# Altium footprint library BAT.PcbLib: 1 footprints
Each footprint in its own frame and in the unit in brackets; x right, y up, seen from the top. Pads: shape width x height; smd on the part's side, far side on the other; paste and mask are expansions set on the pad; w line width, h text height; cw(c..) or ccw(c..) is an arc to the next point about the centre after c.
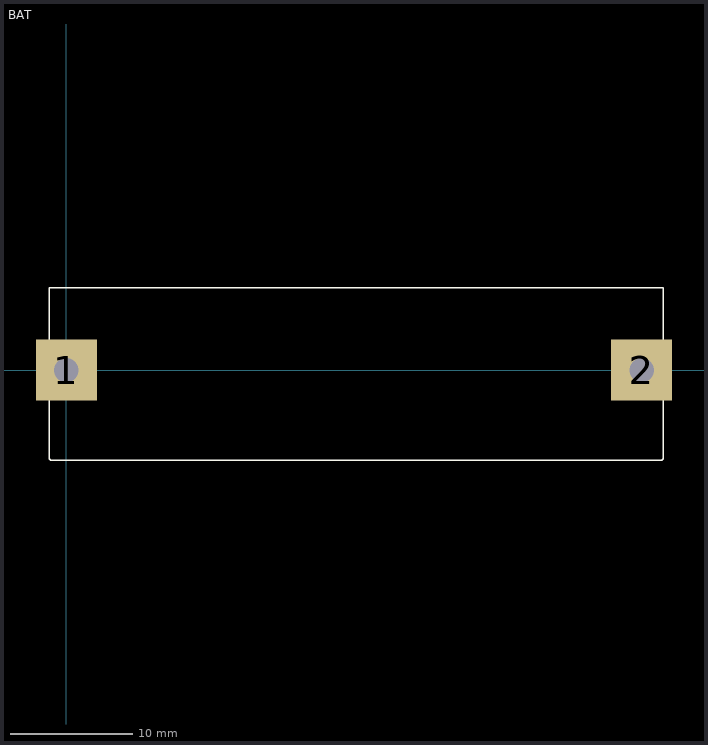
[diagram p0: the footprint, top view; thin cyan lines are the x and y axes]

## BAT [mm]
pads (2):
  rect 5x5 hole 2: 1(0,0) 2(46.99,0)
Top Overlay:
  lines w0.135: -1.397,-7.239 -1.27,-7.366 48.641,-7.366 48.768,-7.239 48.768,6.731 -1.397,6.731 -1.397,-7.239